# EAGLE library part TPS6223* (library bschulz)
TPS6223xx - Ultra Small Step Down Converter (Buck) Characteristics: Vin: 2.05V ~ 6V Vout: 1V ~ 3.3V (fixed increments) IQ: 22μA Output Current: 500 mA Operating Temperature: -40°C to 85°C Digikey: TPS62237 (3.3V Fixed) <https://www.digikey.com/product-detail/en/texas-instruments/TPS62237DRYR/296-39454-1-ND/5143402>
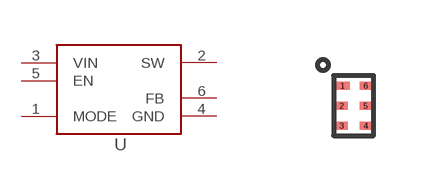
[diagram p93: symbol with the pads of DRY0006A; footprint DRY0006A]

Designator prefix U

## TPS6223DRY, TPS62237DRY (DIGIKEY: 296-39454-1-ND; DISP: TPS62237; MF: TI; MPN: TPS62237DRYR)  [DRY0006A]
1  MODE  in
2  SW  out
3  VIN  pwr
4  GND  pwr
5  EN  in
6  FB  in

## Footprint DRY0006A (pad centres in mm)
smd 0.35 x 0.2: 1 -0.275,0.5
smd 0.3 x 0.2: 2 -0.3,0; 3 -0.3,-0.5; 4 0.3,-0.5; 5 0.3,0; 6 0.3,0.5